# EAGLE library part POLOLU-4988 (library dotson)
Pololu 4988 stepper motor driver footprint
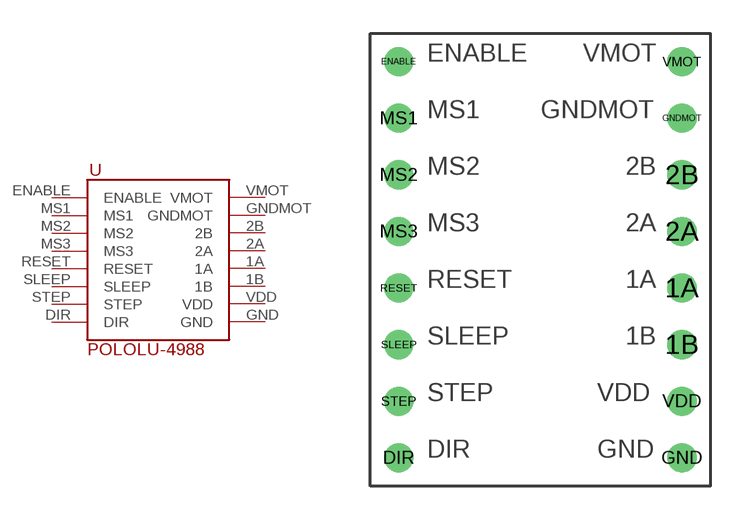
[diagram p0: symbol with the pads of POLOLU-4988; footprint POLOLU-4988]

Designator prefix -

## POLOLU-4988  [POLOLU-4988]
1A  1A
1B  1B
2A  2A
2B  2B
DIR  DIR
ENABLE  ENABLE
GND  GND
GNDMOT  GNDMOT
MS1  MS1
MS2  MS2
MS3  MS3
RESET  RESET
SLEEP  SLEEP
STEP  STEP
VDD  VDD
VMOT  VMOT

## Footprint POLOLU-4988 (pad centres in mm)
drill 0.8: 1A 13.97,8.89; 1B 13.97,6.35; 2A 13.97,11.43; 2B 13.97,13.97; DIR 1.27,1.27; ENABLE 1.27,19.05; GND 13.97,1.27; GNDMOT 13.97,16.51; MS1 1.27,16.51; MS2 1.27,13.97; MS3 1.27,11.43; RESET 1.27,8.89; SLEEP 1.27,6.35; STEP 1.27,3.81; VDD 13.97,3.81; VMOT 13.97,19.05